# EAGLE library part KRE-8P (library Conectores_KRE)
KRE Conector 8P
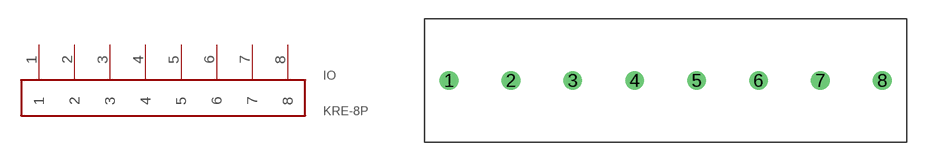
[diagram p0: symbol with the pads of KRE-8P; footprint KRE-8P]

Designator prefix IO

## KRE-8P  [KRE-8P]
1  1
2  2
3  3
4  4
5  5
6  6
7  7
8  8

## Footprint KRE-8P (pad centres in mm)
drill 1: 1 -17.78,0; 2 -12.78,0; 3 -7.78,0; 4 -2.78,0; 5 2.22,0; 6 7.22,0; 7 12.22,0; 8 17.22,0